# Altium footprint library 曾宪阳PCB库.PcbLib: 142 footprints (part 3 of 9)
Each footprint in its own frame and in the unit in brackets; x right, y up, seen from the top. Pads: shape width x height; smd on the part's side, far side on the other; paste and mask are expansions set on the pad; w line width, h text height; cw(c..) or ccw(c..) is an arc to the next point about the centre after c.
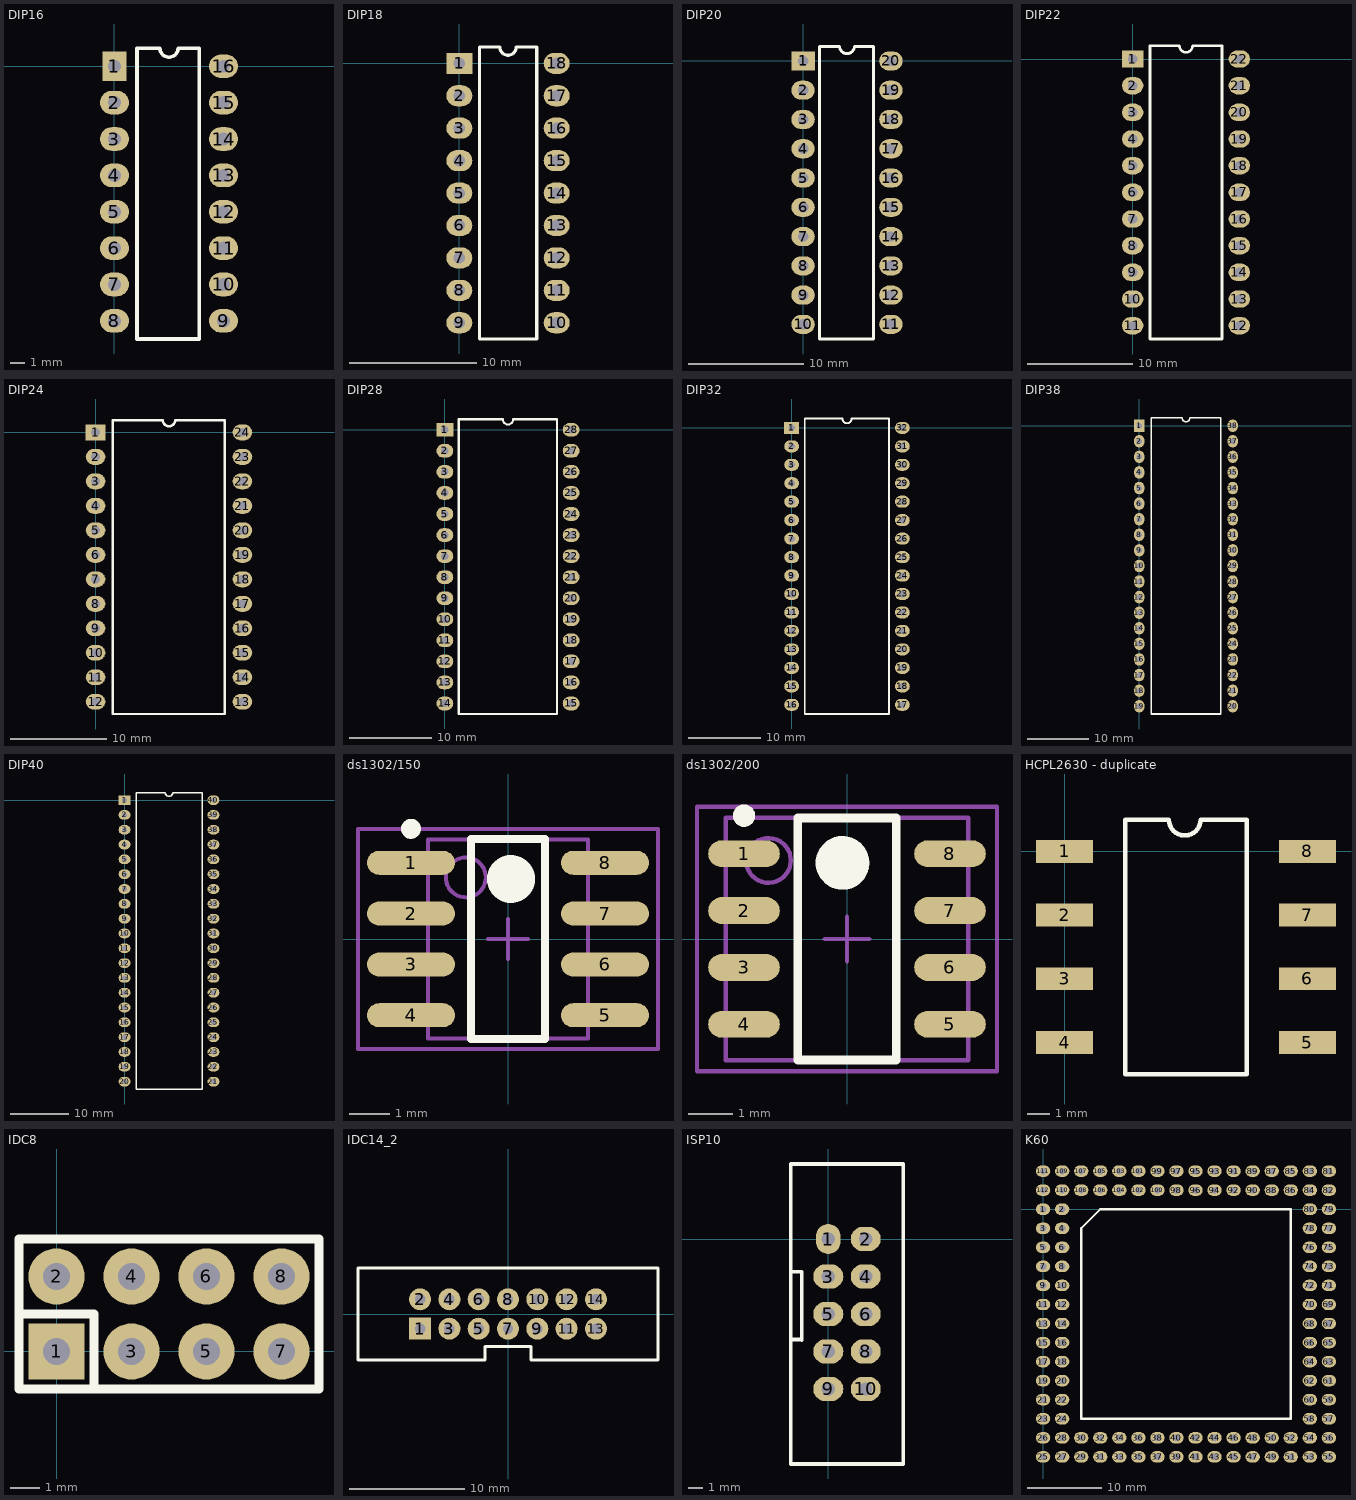
[diagram p2: the footprints below, top view; thin cyan lines are the x and y axes]

## DIP16 [mil]
pads (16):
  rect 65x80 hole 35.43: 1(0,0)
  oval 80x65 hole 35.43: 2(0,-100) 3(0,-200) 4(0,-300) 5(0,-400) 6(0,-500) 7(0,-600) 8(0,-700) 9(300,-700) 10(300,-600) 11(300,-500) 12(300,-400) 13(300,-300) 14(300,-200) 15(300,-100) 16(300,0)
Top Overlay:
  lines w10: 62,-750 62,50 125,50 ccw(c150,50) 175,50 233,50 233,-750 62,-750

## DIP18 [mil]
pads (18):
  rect 80x65 hole 35.43: 1(0,0)
  oval 80x65 hole 35.43: 2(0,-100) 3(0,-200) 4(0,-300) 5(0,-400) 6(0,-500) 7(0,-600) 8(0,-700) 9(0,-800) 10(300,-800) 11(300,-700) 12(300,-600) 13(300,-500) 14(300,-400) 15(300,-300) 16(300,-200) 17(300,-100) 18(300,0)
Top Overlay:
  lines w10: 62,-850 239,-850 239,50 175,50 cw(c150,50) 125,50 62,50 62,-850

## DIP20 [mil]
pads (20):
  rect 80x65 hole 35.43: 1(0,0)
  oval 80x65 hole 35.43: 2(0,-100) 3(0,-200) 4(0,-300) 5(0,-400) 6(0,-500) 7(0,-600) 8(0,-700) 9(0,-800) 10(0,-900) 11(300,-900) 12(300,-800) 13(300,-700) 14(300,-600) 15(300,-500) 16(300,-400) 17(300,-300) 18(300,-200) 19(300,-100) 20(300,0)
Top Overlay:
  lines w10: 56,-950 56,50 125,50 ccw(c150,50) 175,50 241,50 241,-950 56,-950

## DIP22 [mil]
pads (22):
  rect 80x65 hole 35.43: 1(0,0)
  oval 80x65 hole 35.43: 2(0,-100) 3(0,-200) 4(0,-300) 5(0,-400) 6(0,-500) 7(0,-600) 8(0,-700) 9(0,-800) 10(0,-900) 11(0,-1000) 12(400,-1000) 13(400,-900) 14(400,-800) 15(400,-700) 16(400,-600) 17(400,-500) 18(400,-400) 19(400,-300) 20(400,-200) 21(400,-100) 22(400,0)
Top Overlay:
  lines w10: 65,-1050 335,-1050 335,50 225,50 cw(c200,50) 175,50 65,50 65,-1050

## DIP24 [mil]
pads (24):
  rect 80x65 hole 35.43: 1(0,0)
  oval 80x65 hole 35.43: 2(0,-100) 3(0,-200) 4(0,-300) 5(0,-400) 6(0,-500) 7(0,-600) 8(0,-700) 9(0,-800) 10(0,-900) 11(0,-1000) 12(0,-1100) 13(600,-1100) 14(600,-1000) 15(600,-900) 16(600,-800) 17(600,-700) 18(600,-600) 19(600,-500) 20(600,-400) 21(600,-300) 22(600,-200) 23(600,-100) 24(600,0)
Top Overlay:
  lines w10: 71,-1150 71,50 275,50 ccw(c300,50) 325,50 528,50 528,-1150 71,-1150

## DIP28 [mil]
pads (28):
  rect 80x65 hole 35.43: 1(0,0)
  oval 80x65 hole 35.43: 2(0,-100) 3(0,-200) 4(0,-300) 5(0,-400) 6(0,-500) 7(0,-600) 8(0,-700) 9(0,-800) 10(0,-900) 11(0,-1000) 12(0,-1100) 13(0,-1200) 14(0,-1300) 15(600,-1300) 16(600,-1200) 17(600,-1100) 18(600,-1000) 19(600,-900) 20(600,-800) 21(600,-700) 22(600,-600) 23(600,-500) 24(600,-400) 25(600,-300) 26(600,-200) 27(600,-100) 28(600,0)
Top Overlay:
  lines w10: 66,-1350 533,-1350 533,50 325,50 cw(c300,50) 275,50 66,50 66,-1350

## DIP32 [mil]
pads (32):
  rect 80x65 hole 35.43: 1(0,0)
  oval 80x65 hole 35.43: 2(0,-100) 3(0,-200) 4(0,-300) 5(0,-400) 6(0,-500) 7(0,-600) 8(0,-700) 9(0,-800) 10(0,-900) 11(0,-1000) 12(0,-1100) 13(0,-1200) 14(0,-1300) 15(0,-1400) 16(0,-1500) 17(600,-1500) 18(600,-1400) 19(600,-1300) 20(600,-1200) 21(600,-1100) 22(600,-1000) 23(600,-900) 24(600,-800) 25(600,-700) 26(600,-600) 27(600,-500) 28(600,-400) 29(600,-300) 30(600,-200) 31(600,-100) 32(600,0)
Top Overlay:
  lines w10: 71,-1550 71,50 275,50 ccw(c300,50) 325,50 527,50 527,-1550 71,-1550

## DIP38 [mil]
pads (38):
  rect 65x80 hole 35.43: 1(0,0)
  oval 65x80 hole 35.43: 2(0,-100) 3(0,-200) 4(0,-300) 5(0,-400) 6(0,-500) 7(0,-600) 8(0,-700) 9(0,-800) 10(0,-900) 11(0,-1000) 12(0,-1100) 13(0,-1200) 14(0,-1300) 15(0,-1400) 16(0,-1500) 17(0,-1600) 18(0,-1700) 19(0,-1800) 20(600,-1800) 21(600,-1700) 22(600,-1600) 23(600,-1500) 24(600,-1400) 25(600,-1300) 26(600,-1200) 27(600,-1100) 28(600,-1000) 29(600,-900) 30(600,-800) 31(600,-700) 32(600,-600) 33(600,-500) 34(600,-400) 35(600,-300) 36(600,-200) 37(600,-100) 38(600,0)
Top Overlay:
  lines w10: 77.5,-1850 77.5,50 275,50 ccw(c300,50) 325,50 522.5,50 522.5,-1850 77.5,-1850

## DIP40 [mil]
pads (40):
  rect 80x65 hole 35.43: 1(0,0)
  oval 80x65 hole 35.43: 2(0,-100) 3(0,-200) 4(0,-300) 5(0,-400) 6(0,-500) 7(0,-600) 8(0,-700) 9(0,-800) 10(0,-900) 11(0,-1000) 12(0,-1100) 13(0,-1200) 14(0,-1300) 15(0,-1400) 16(0,-1500) 17(0,-1600) 18(0,-1700) 19(0,-1800) 20(0,-1900) 21(600,-1900) 22(600,-1800) 23(600,-1700) 24(600,-1600) 25(600,-1500) 26(600,-1400) 27(600,-1300) 28(600,-1200) 29(600,-1100) 30(600,-1000) 31(600,-900) 32(600,-800) 33(600,-700) 34(600,-600) 35(600,-500) 36(600,-400) 37(600,-300) 38(600,-200) 39(600,-100) 40(600,0)
Top Overlay:
  lines w10: 78,-1950 78,50 275,50 ccw(c300,50) 325,50 523,50 523,-1950 78,-1950

## ds1302/150 [mm] "SOP, 8-Leads, Body 5.0x4.0mm (max), Pitch 1.27mm, IPC Medium Density"
height 1.75
pads (8):
  oval 2.2x0.6 smd: 1(-2.425,1.905) 2(-2.425,0.635) 3(-2.425,-0.635) 4(-2.425,-1.905) 5(2.425,-1.905) 6(2.425,-0.635) 7(2.425,0.635) 8(2.425,1.905)
Top Overlay:
  circle w0.25: c-2.425,2.755 r0.125
  circle w0.6: c0.075,1.5 r0.3
  lines w0.2: -0.925,-2.5 -0.925,2.5 0.925,2.5 0.925,-2.5 -0.925,-2.5
Mechanical 13:
  circle w0.1: c-1.055,1.54 r0.5
  lines w0.1: -2.005,-2.49 -2.005,2.49 2.005,2.49 2.005,-2.49 -2.005,-2.49
Mechanical 15:
  lines w0.1: -0.5,0 0.5,0 ; 0,-0.5 0,0.5 ; -3.75,-2.75 -3.75,2.75 3.75,2.75 3.75,-2.75 -3.75,-2.75
3D body: height 1.75, standoff 0.1, extent -2.005,-2.49 2.005,2.49

## ds1302/200 [mm] "SOP, 8-Leads, Body 5.4x5.4mm (max), Pitch 1.27mm, IPC Medium Density"
height 2.13
pads (8):
  oval 1.6x0.6 smd: 1(-2.3,1.905) 2(-2.3,0.635) 3(-2.3,-0.635) 4(-2.3,-1.905) 5(2.3,-1.905) 6(2.3,-0.635) 7(2.3,0.635) 8(2.3,1.905)
Top Overlay:
  circle w0.25: c-2.3,2.755 r0.125
  circle w0.6: c-0.1,1.7 r0.3
  lines w0.2: -1.1,-2.7 -1.1,2.7 1.1,2.7 1.1,-2.7 -1.1,-2.7
Mechanical 13:
  circle w0.1: c-1.755,1.755 r0.5
  lines w0.1: -2.705,-2.705 -2.705,2.705 2.705,2.705 2.705,-2.705 -2.705,-2.705
Mechanical 15:
  lines w0.1: -0.5,0 0.5,0 ; 0,-0.5 0,0.5 ; -3.35,-2.95 -3.35,2.95 3.35,2.95 3.35,-2.95 -3.35,-2.95
3D body: height 2.13, standoff 0.1, extent -2.705,-2.705 2.705,2.705

## HCPL2630 - duplicate [mm]
pads (8):
  rect 2.5x1 smd: 1(0,0) 2(0,-2.79) 3(0,-5.58) 4(0,-8.37) 5(10.64,-8.37) 6(10.64,-5.58) 7(10.64,-2.79) 8(10.64,0)
Top Overlay:
  lines w0.2: 2.66,-9.765 2.66,1.395 4.567,1.395 ccw(c5.265,1.395) 5.962,1.395 7.98,1.395 7.98,-9.765 2.66,-9.765

## IDC8 [mm]
pads (8):
  rect 1.905x1.905 hole 0.9: 1(0,0)
  round 1.905 hole 0.9: 2(0,2.54) 3(2.54,0) 4(2.54,2.54) 5(5.08,0) 6(5.08,2.54) 7(7.62,0) 8(7.62,2.54)
Top Overlay:
  lines w0.305: -1.27,1.27 1.27,1.27 1.27,-1.27 ; -1.27,-1.27 -1.27,3.81 8.89,3.81 8.89,-1.27 -1.27,-1.27

## IDC14_2 [mm]
pads (14):
  rect 1.905x1.905 hole 0.9: 1(-7.62,-1.27)
  round 1.905 hole 0.9: 2(-7.62,1.27) 3(-5.08,-1.27) 4(-5.08,1.27) 5(-2.54,-1.27) 6(-2.54,1.27) 7(0,-1.27) 8(0,1.27) 9(2.54,-1.27) 10(2.54,1.27) 11(5.08,-1.27) 12(5.08,1.27) 13(7.62,-1.27) 14(7.62,1.27)
Top Overlay:
  lines w0.254: -13,-4 -2,-4 -2,-2.8 2,-2.8 2,-4 13,-4 13,4 -13,4 -13,-4

## ISP10 [mil]
pads (10):
  oval 65x80 hole 35.43: 1(0,0)
  oval 80x65 hole 35.43: 2(100,0) 3(0,-100) 4(100,-100) 5(0,-200) 6(100,-200) 7(0,-300) 8(100,-300) 9(0,-400) 10(100,-400)
Top Overlay:
  lines w10: -100,-268 -72,-268 -71,-269 -71,-87 -100,-87 ; -100,-600 -100,200 0,200 200,200 200,-600 -100,-600

## K60 [mil]
pads (112):
  oval 75x60 hole 35.43: 1(0,0) 2(100,0) 3(0,-100) 4(100,-100) 5(0,-200) 6(100,-200) 7(0,-300) 8(100,-300) 9(0,-400) 10(100,-400) 11(0,-500) 12(100,-500) 13(0,-600) 14(100,-600) 15(0,-700) 16(100,-700) 17(0,-800) 18(100,-800) 19(0,-900) 20(100,-900) 21(0,-1000) 22(100,-1000) 23(0,-1100) 24(100,-1100) 25(0,-1300) 26(0,-1200) 27(100,-1300) 28(100,-1200) 29(200,-1300) 30(200,-1200) 31(300,-1300) 32(300,-1200) 33(400,-1300) 34(400,-1200) 35(500,-1300) 36(500,-1200) 37(600,-1300) 38(600,-1200) 39(700,-1300) 40(700,-1200) 41(800,-1300) 42(800,-1200) 43(900,-1300) 44(900,-1200) 45(1000,-1300) 46(1000,-1200) 47(1100,-1300) 48(1100,-1200) 49(1200,-1300) 50(1200,-1200) 51(1300,-1300) 52(1300,-1200) 53(1400,-1300) 54(1400,-1200) 55(1500,-1300) 56(1500,-1200) 57(1500,-1100) 58(1400,-1100) 59(1500,-1000) 60(1400,-1000) 61(1500,-900) 62(1400,-900) 63(1500,-800) 64(1400,-800) 65(1500,-700) 66(1400,-700) 67(1500,-600) 68(1400,-600) 69(1500,-500) 70(1400,-500) 71(1500,-400) 72(1400,-400) 73(1500,-300) 74(1400,-300) 75(1500,-200) 76(1400,-200) 77(1500,-100) 78(1400,-100) 79(1500,0) 80(1400,0) 81(1500,200) 82(1500,100) 83(1400,200) 84(1400,100) 85(1300,200) 86(1300,100) 87(1200,200) 88(1200,100) 89(1100,200) 90(1100,100) 91(1000,200) 92(1000,100) 93(900,200) 94(900,100) 95(800,200) 96(800,100) 97(700,200) 98(700,100) 99(600,200) 100(600,100) 101(500,200) 102(500,100) 103(400,200) 104(400,100) 105(300,200) 106(300,100) 107(200,200) 108(200,100) 109(100,200) 110(100,100) 111(0,200) 112(0,100)
Top Overlay:
  lines w12: 200,-100 300,0 ; 200,-100 200,-1100 1300,-1100 1300,0 300,0 ; 200,-100 300,0